# Altium footprint library EASY-EAI-Nano-TB V1.01.PcbLib: 64 footprints (part 1 of 4)
Each footprint in its own frame and in the unit in brackets; x right, y up, seen from the top. Pads: shape width x height; smd on the part's side, far side on the other; paste and mask are expansions set on the pad; w line width, h text height; cw(c..) or ccw(c..) is an arc to the next point about the centre after c.
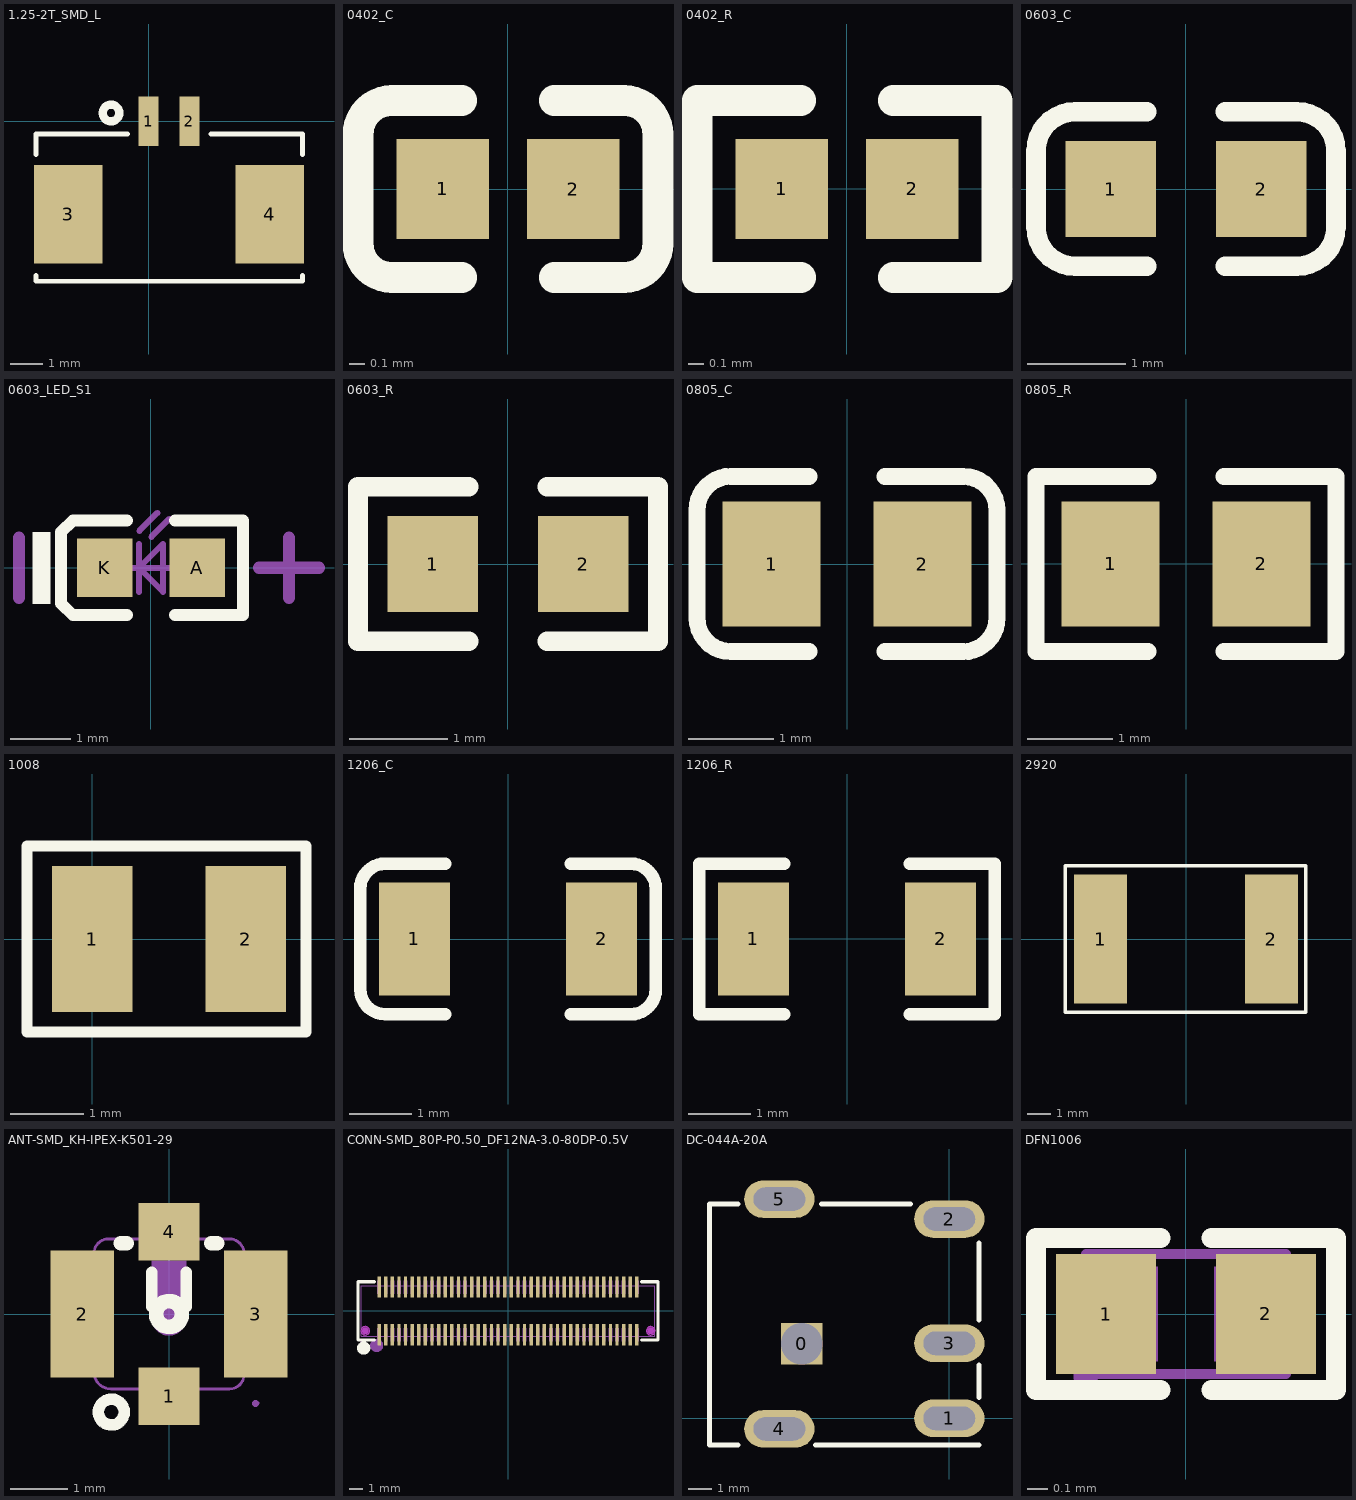
[diagram p0: the footprints below, top view; thin cyan lines are the x and y axes]

## 1.25-2T_SMD_L [mm]
height 0.2
pads (4):
  rect 0.6x1.5 smd: 1(0,0) 2(1.25,0)
  rect 2.1x3 smd: 3(-2.45,-2.835) 4(3.7,-2.835)
Top Overlay:
  circle w0.254: c-1.143,0.254 r0.254
  lines w0.15: -3.429,-4.699 -3.429,-4.879 4.699,-4.879 4.699,-4.699 ; -3.429,-1.016 -3.429,-0.381 -0.635,-0.381 ; 1.905,-0.381 4.699,-0.381 4.699,-1.016

## 0402_C [mm]
height 2.7
pads (2):
  rect 0.6x0.65 smd mask+0.051: 1(-0.425,0) 2(0.425,0)
Top Overlay:
  lines w0.2: -0.755,-0.575 cw(c-0.755,-0.355) -0.975,-0.355 -0.975,0.355 cw(c-0.755,0.355) -0.755,0.575 ; -0.75,-0.575 -0.3,-0.575 ; -0.75,0.575 -0.3,0.575 ; 0.3,-0.575 0.75,-0.575 ; 0.3,0.575 0.75,0.575 ; 0.755,-0.575 ccw(c0.755,-0.355) 0.975,-0.355 0.975,0.355 ccw(c0.755,0.355) 0.755,0.575
3D body "0402 SMD Capacitor.step": height 0.2, standoff 0, extent -0.483,-0.3 0.517,0.3

## 0402_R [mm]
height 2.7
pads (2):
  rect 0.6x0.65 smd mask+0.051: 1(-0.425,0) 2(0.425,0)
Top Overlay:
  lines w0.2: -0.3,-0.575 -0.975,-0.575 -0.975,0.575 -0.3,0.575 ; 0.3,-0.575 0.975,-0.575 0.975,0.575 0.3,0.575
3D body "User Library-RES_1005-0402.STEP": height 0.41, standoff 0, extent -0.575,-0.275 0.575,0.275

## 0603_C [mm]
height 0.2
pads (2):
  rect 0.93x0.98 smd: 1(-0.77,0) 2(0.77,0)
Top Overlay:
  lines w0.2: -0.4,-0.79 -1.135,-0.79 cw(c-1.135,-0.39) -1.535,-0.39 -1.535,0.39 cw(c-1.135,0.39) -1.135,0.79 -0.4,0.79 ; 0.4,-0.79 1.135,-0.79 ccw(c1.135,-0.39) 1.535,-0.39 1.535,0.39 ccw(c1.135,0.39) 1.135,0.79 0.4,0.79
3D body "User Library-0603 SMD Capacitor.STEP": height 0.3, standoff 0, extent -0.8,-0.4 0.8,0.4

## 0603_LED_S1 [mm]
height 2.7
pads (2):
  rect 0.93x0.98 smd: A(0.77,0) K(-0.77,0)
Top Overlay:
  rectangle: -1.975,-0.6 -1.675,0.6
  lines w0.2: -0.4,-0.79 -1.3,-0.79 -1.5,-0.597 -1.5,0.597 -1.3,0.79 -0.4,0.79 ; 0.4,-0.79 1.535,-0.79 1.535,0.79 0.4,0.79
Mechanical 13:
  lines w0.1: -0.4,0 0.4,0 ; -0.2,-0.4 -0.2,0.4 ; -0.195,0.617 0.105,0.917 ; 0.005,0.517 0.305,0.817 ; -0.2,0 0.2,0.4 0.2,-0.4 -0.2,0
Mechanical 15:
  lines w0.203: -2.2,-0.5 -2.2,0.5 ; 1.8,0 2.8,0 ; 2.3,-0.5 2.3,0.5
3D body "User Library-LED_0603_R.STEP": height 0.6, standoff 0, extent -0.8,-0.4 0.8,0.4

## 0603_R [mm]
height 0.2
pads (2):
  rect 0.93x0.98 smd: 1(-0.77,0) 2(0.77,0)
Top Overlay:
  lines w0.2: -0.4,-0.79 -1.535,-0.79 -1.535,0.79 -0.4,0.79 ; 0.4,-0.79 1.535,-0.79 1.535,0.79 0.4,0.79
3D body "User Library-RES_1609-0603.STEP": height 0.56, standoff 0, extent -0.85,-0.4 0.85,0.4

## 0805_C [mm]
height 0.2
pads (2):
  rect 1.16x1.47 smd: 1(-0.89,0) 2(0.89,0)
Top Overlay:
  lines w0.2: -0.45,-1.035 -1.37,-1.035 cw(c-1.37,-0.635) -1.77,-0.635 -1.77,0.635 cw(c-1.37,0.635) -1.37,1.035 -0.45,1.035 ; 0.45,-1.035 1.37,-1.035 ccw(c1.37,-0.635) 1.77,-0.635 1.77,0.635 ccw(c1.37,0.635) 1.37,1.035 0.45,1.035
3D body "User Library-0805 SMD Capacitor.STEP": height 0.77, standoff -0.01, extent -1,-0.625 1.001,0.625

## 0805_R [mm]
height 0.2
pads (2):
  rect 1.16x1.47 smd: 1(-0.89,0) 2(0.89,0)
Top Overlay:
  lines w0.2: -0.45,-1.035 -1.77,-1.035 -1.77,1.035 -0.45,1.035 ; 0.45,-1.035 1.77,-1.035 1.77,1.035 0.45,1.035
3D body "User Library-R_0805.STEP": height 0.49, standoff -0.01, extent -0.997,-0.625 1.003,0.625

## 1008 [mm]
pads (2):
  rect 1.1x2 smd: 1(0,0) 2(2.1,0)
Top Overlay:
  lines w0.152: -0.889,-1.27 -0.889,1.27 2.921,1.27 2.921,-1.27 -0.889,-1.27

## 1206_C [mm]
height 0.2
pads (2):
  rect 1.13x1.8 smd: 1(-1.49,0) 2(1.49,0)
Top Overlay:
  lines w0.2: -1,-1.2 -1.955,-1.2 cw(c-1.955,-0.8) -2.355,-0.8 -2.355,0.8 cw(c-1.955,0.8) -1.955,1.2 -1,1.2 ; 1,-1.2 1.955,-1.2 ccw(c1.955,-0.8) 2.355,-0.8 2.355,0.8 ccw(c1.955,0.8) 1.955,1.2 1,1.2
3D body "C1206.STEP": height 1, standoff 0, extent -1.602,-0.813 1.598,0.787

## 1206_R [mm]
height 0.2
pads (2):
  rect 1.13x1.8 smd: 1(-1.49,0) 2(1.49,0)
Top Overlay:
  lines w0.2: -1,-1.2 -2.355,-1.2 -2.355,1.2 -1,1.2 ; 1,-1.2 2.355,-1.2 2.355,1.2 1,1.2
3D body "User Library-RES_3216-1206.STEP": height 0.85, standoff 0, extent -1.7,-0.864 1.65,0.866

## 2920 [mm]
height 0.2
pads (2):
  rect 2.3x5.6 smd: 1(-3.7,0) 2(3.7,0)
Top Overlay:
  lines w0.152: -5.224,-3.175 -5.224,3.175 5.19,3.175 5.19,-3.175 -5.224,-3.175

## ANT-SMD_KH-IPEX-K501-29 [mm]
pads (4):
  rect 1.05x1 smd: 1(0,-1.425) 4(0,1.425)
  rect 1.1x2.2 smd: 2(-1.5,0) 3(1.5,0)
Top Overlay:
  circle w0.2: c-1,-1.7 r0.224
  circle w0.254: c0,0 r0.224
  lines w0.2: -0.3,0.125 -0.3,0.725 ; 0.3,0.125 0.3,0.725
  lines w0.254: -0.837,1.225 -0.731,1.225 ; 0.731,1.225 0.837,1.225
Mechanical 6:
  circle w0.3: c0,-0.075 r0.15
  circle w0.2: c-0.3,-1.625 r0.1
  region: -0.3,0.925 -0.3,-0.075 0.3,-0.075 0.3,0.925
Mechanical 15:
  region: 0.3,1.201 -0.3,1.201 -0.3,1.651 0.3,1.651
  region: -0.3,-1 0.3,-1 0.3,-1.551 -0.3,-1.551
  region: 1.05,-0.9 1.05,0.9 1.5,0.9 1.5,-0.9
  region: -1.05,0.9 -1.05,-0.9 -1.5,-0.9 -1.5,0.9
  region: 1.56,-1.551 1.56,-1.526 1.525,-1.491 1.475,-1.491 1.44,-1.526 1.44,-1.551 1.44,-1.576 1.475,-1.611 1.525,-1.611 1.56,-1.576
  lines w0.051: 1.051,-1.299 ccw(c1.051,-1.05) 1.299,-1.05 1.299,-1.045 ccw(c1.299,-1.044) 1.3,-1.044 1.3,1.051 ccw(c1.05,1.051) 1.05,1.301 0.97,1.301 -1.048,1.3 -1.052,1.3 ccw(c-1.052,1.053) -1.299,1.053 -1.299,-0.924 cw(c-1.3,-0.924) -1.3,-0.925 -1.3,-1.007 ccw(c-1.008,-1.007) -1.008,-1.299 1.051,-1.299 ; 1.051,-1.299 1.051,-1.299

## CONN-SMD_80P-P0.50_DF12NA-3.0-80DP-0.5V [mm]
pads (80):
  rect 0.25x1.6 smd: 1(-9.75,-1.8) 2(-9.75,1.8) 3(-9.25,-1.8) 4(-9.25,1.8) 5(-8.75,-1.8) 6(-8.75,1.8) 7(-8.25,-1.8) 8(-8.25,1.8) 9(-7.75,-1.8) 10(-7.75,1.8) 11(-7.25,-1.8) 12(-7.25,1.8) 13(-6.75,-1.8) 14(-6.75,1.8) 15(-6.25,-1.8) 16(-6.25,1.8) 17(-5.75,-1.8) 18(-5.75,1.8) 19(-5.25,-1.8) 20(-5.25,1.8) 21(-4.75,-1.8) 22(-4.75,1.8) 23(-4.25,-1.8) 24(-4.25,1.8) 25(-3.75,-1.8) 26(-3.75,1.8) 27(-3.25,-1.8) 28(-3.25,1.8) 29(-2.75,-1.8) 30(-2.75,1.8) 31(-2.25,-1.8) 32(-2.25,1.8) 33(-1.75,-1.8) 34(-1.75,1.8) 35(-1.25,-1.8) 36(-1.25,1.8) 37(-0.75,-1.8) 38(-0.75,1.8) 39(-0.25,-1.8) 40(-0.25,1.8) 41(0.25,-1.8) 42(0.25,1.8) 43(0.75,-1.8) 44(0.75,1.8) 45(1.25,-1.8) 46(1.25,1.8) 47(1.75,-1.8) 48(1.75,1.8) 49(2.25,-1.8) 50(2.25,1.8) 51(2.75,-1.8) 52(2.75,1.8) 53(3.25,-1.8) 54(3.25,1.8) 55(3.75,-1.8) 56(3.75,1.8) 57(4.25,-1.8) 58(4.25,1.8) 59(4.75,-1.8) 60(4.75,1.8) 61(5.25,-1.8) 62(5.25,1.8) 63(5.75,-1.8) 64(5.75,1.8) 65(6.25,-1.8) 66(6.25,1.8) 67(6.75,-1.8) 68(6.75,1.8) 69(7.25,-1.8) 70(7.25,1.8) 71(7.75,-1.8) 72(7.75,1.8) 73(8.25,-1.8) 74(8.25,1.8) 75(8.75,-1.8) 76(8.75,1.8) 77(9.25,-1.8) 78(9.25,1.8) 79(9.75,-1.8) 80(9.75,1.8)
Top Overlay:
  circle w0.5: c-10.92,-2.81 r0.25
  lines w0.254: -10.106,-2.2 -11.35,-2.2 -11.35,2.2 -10.106,2.2 ; 10.106,-2.2 11.35,-2.2 11.35,2.2 10.106,2.2
Keep-Out Layer:
  board cut-out: 11.125,-1.5 11.125,-1.565 11.076,-1.684 10.984,-1.775 10.865,-1.825 10.735,-1.825 10.616,-1.775 10.525,-1.684 10.475,-1.565 10.475,-1.5 10.475,-1.435 10.525,-1.316 10.616,-1.224 10.735,-1.175 10.865,-1.175 10.984,-1.224 11.076,-1.316 11.125,-1.435 11.125,-1.5
  board cut-out: -10.475,-1.5 -10.475,-1.565 -10.524,-1.684 -10.616,-1.775 -10.735,-1.825 -10.865,-1.825 -10.984,-1.775 -11.075,-1.684 -11.125,-1.565 -11.125,-1.5 -11.125,-1.435 -11.075,-1.316 -10.984,-1.224 -10.865,-1.175 -10.735,-1.175 -10.616,-1.224 -10.524,-1.316 -10.475,-1.435 -10.475,-1.5
  region: 11.125,-1.5 11.125,-1.565 11.076,-1.684 10.984,-1.775 10.865,-1.825 10.735,-1.825 10.616,-1.775 10.525,-1.684 10.475,-1.565 10.475,-1.5 10.475,-1.435 10.525,-1.316 10.616,-1.224 10.735,-1.175 10.865,-1.175 10.984,-1.224 11.076,-1.316 11.125,-1.435 11.125,-1.5
  region: -10.475,-1.5 -10.475,-1.565 -10.524,-1.684 -10.616,-1.775 -10.735,-1.825 -10.865,-1.825 -10.984,-1.775 -11.075,-1.684 -11.125,-1.565 -11.125,-1.5 -11.125,-1.435 -11.075,-1.316 -10.984,-1.224 -10.865,-1.175 -10.735,-1.175 -10.616,-1.224 -10.524,-1.316 -10.475,-1.435 -10.475,-1.5
Keep-Out Layer:
  circle w0.025: c10.8,-1.5 r0.325
  circle w0.025: c-10.8,-1.5 r0.325
Mechanical 1:
  circle w0.025: c10.8,-1.5 r0.325
  circle w0.025: c-10.8,-1.5 r0.325
Mechanical 6:
  circle w0.25: c10.8,-1.5 r0.125
  circle w0.25: c-10.8,-1.5 r0.125
  circle w0.5: c-9.94,-2.61 r0.25
Mechanical 15:
  drawing of 85 lines, arcs and shapes, not listed

## DC-044A-20A [mm]
height 16.5
pads (6):
  rect 1.778x1.778 hole 1.778 square: 0(-6.292,3.18)
  oval 3x1.6 hole 1 slot 2.2 at 0 deg: 1(0,0) 2(0,8.501) 3(0,3.2) 4(-7.25,-0.45) 5(-7.25,9.351)
Top Overlay:
  lines w0.203: -9.017,-1.143 -10.229,-1.143 -10.229,9.144 -9.017,9.144 ; -5.715,-1.143 1.27,-1.143 ; -5.461,9.144 -1.651,9.144 ; 1.27,0.889 1.27,2.286 ; 1.27,4.191 1.27,7.493

## DFN1006 [mm]
height 0.2
pads (2):
  rect 0.5x0.6 smd mask+0.051: 1(-0.4,0) 2(0.4,0)
Top Overlay:
  lines w0.1: -0.127,-0.381 -0.75,-0.381 -0.75,0.381 -0.127,0.381 ; 0.127,-0.381 0.75,-0.381 0.75,0.381 0.127,0.381
Mechanical 15:
  region: -0.442,-0.301 -0.442,-0.277 -0.477,-0.241 -0.527,-0.241 -0.562,-0.277 -0.562,-0.301 -0.562,-0.326 -0.527,-0.362 -0.477,-0.362 -0.442,-0.326
  region: -0.46,0.235 -0.14,0.235 -0.14,-0.235 -0.46,-0.235
  region: 0.46,-0.235 0.14,-0.235 0.14,0.235 0.46,0.235
  lines w0.051: -0.5,-0.3 0.5,-0.3 0.5,0.3 -0.5,0.3 -0.5,-0.3